# Altium footprint library micro_mousev1.0.PcbLib: 13 footprints
Each footprint in its own frame and in the unit in brackets; x right, y up, seen from the top. Pads: shape width x height; smd on the part's side, far side on the other; paste and mask are expansions set on the pad; w line width, h text height; cw(c..) or ccw(c..) is an arc to the next point about the centre after c.
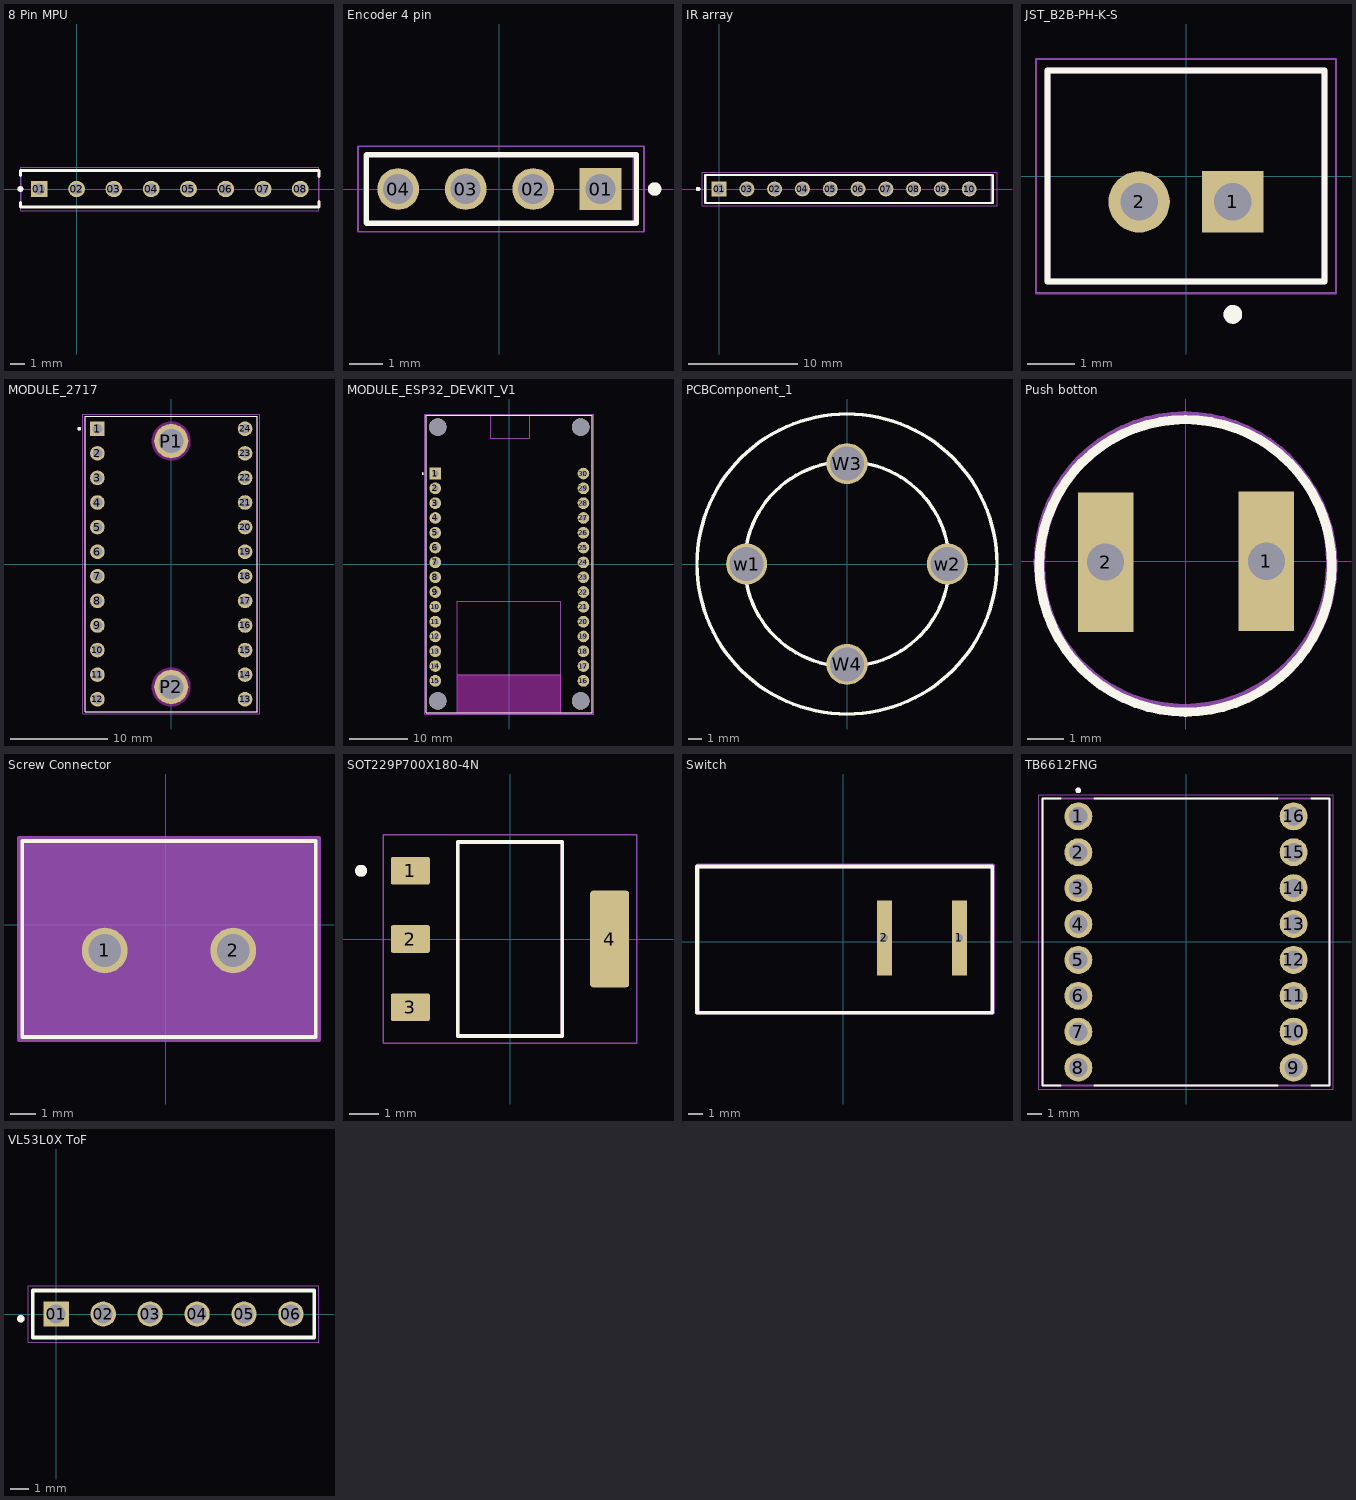
[diagram p0: the footprints below, top view; thin cyan lines are the x and y axes]

## 8 Pin MPU [mil]
pads (8):
  rect 43.7x43.7 / inner round 43.7 / far side rect 43.7x43.7 hole 29.92: 01(-100,0)
  oval 45x43.7 hole 30: 02(0,0) 03(100,0) 04(200,0) 05(300,0) 06(400,0) 07(500,0) 08(600,0)
Top Overlay:
  circle w7.87: c-150.47,0 r3.94
  lines w7.87: -150,-35.63 -150,-48 650,-48 650,-33.66 ; -150,35.63 -150,50 650,50 650,33.66
Mechanical 13:
  circle w7.87: c-150.47,0 r3.94
  lines w3.94: -150,-48 -150,48 650,48 650,-48 -150,-48
Mechanical 15:
  lines w1.97: -150,-57.84 650,-57.84 650,57.84 -150,57.84 -150,-57.84

## Encoder 4 pin [mm]
pads (4):
  rect 1.24x1.24 / inner round 1.24 / far side rect 1.24x1.24 hole 0.89: 01(3,0)
  round 1.24 hole 0.89: 02(1,0) 03(-1,0) 04(-3,0)
Top Overlay:
  circle w0.2: c4.599,0 r0.1
  lines w0.152: -3.937,-1.016 4.064,-1.016 4.064,1.016 -3.937,1.016 -3.937,-1.016
Mechanical 13:
  circle w0.2: c4.599,0 r0.1
  lines w0.1: -4,-1 -4,1.016 4,1.016 4,-1 -4,-1
Mechanical 15:
  lines w0.05: -4.191,-1.27 -4.191,1.27 4.284,1.27 4.284,-1.27 -4.191,-1.27

## IR array [mm]
pads (10):
  rect 1.37x1.37 hole 1.02: 01(0,0)
  round 1.37 hole 1.02: 02(5.08,0) 03(2.54,0) 04(7.62,0) 05(10.16,0) 06(12.7,0) 07(15.24,0) 08(17.78,0) 09(20.32,0) 10(22.86,0)
Top Overlay:
  circle w0.2: c-1.92,0 r0.1
  lines w0.2: -1.27,-1.27 25.019,-1.27 25.019,1.27 -1.27,1.27 -1.27,-1.27
Mechanical 13:
  circle w0.2: c-1.92,0 r0.1
  lines w0.1: -1.27,-1.27 -1.27,1.27 24.892,1.27 24.892,-1.27 -1.27,-1.27
Mechanical 15:
  lines w0.05: -1.52,-1.52 -1.52,1.52 25.4,1.52 25.4,0.76 25.4,-0.76 25.4,-1.52 -1.52,-1.52

## JST_B2B-PH-K-S [mm]
pads (2):
  rect 1.308x1.308 / inner round 1.308 / far side rect 1.308x1.308 hole 0.8: 1(1,-0.55)
  round 1.308 hole 0.8: 2(-1,-0.55)
Top Overlay:
  circle w0.2: c1,-2.95 r0.1
  lines w0.127: -2.95,-2.25 2.95,-2.25 2.95,2.25 -2.95,2.25 -2.95,-2.25
Mechanical 13:
  circle w0.2: c1,-2.95 r0.1
  lines w0.127: -2.95,-2.25 -2.95,2.25 2.95,2.25 2.95,-2.25 -2.95,-2.25
Mechanical 15:
  lines w0.05: -3.2,-2.5 -3.2,2.5 3.2,2.5 3.2,-2.5 -3.2,-2.5
3D body "step_temp.STEP": height 6, standoff -3.4, extent -2.95,-2.25 2.95,2.25

## MODULE_2717 [mm]
height 2.7
pads (26):
  rect 1.508x1.508 / inner round 1.508 / far side rect 1.508x1.508 hole 1: 1(-7.62,13.97)
  round 1.508 hole 1: 2(-7.62,11.43) 3(-7.62,8.89) 4(-7.62,6.35) 5(-7.62,3.81) 6(-7.62,1.27) 7(-7.62,-1.27) 8(-7.62,-3.81) 9(-7.62,-6.35) 10(-7.62,-8.89) 11(-7.62,-11.43) 12(-7.62,-13.97) 13(7.62,-13.97) 14(7.62,-11.43) 15(7.62,-8.89) 16(7.62,-6.35) 17(7.62,-3.81) 18(7.62,-1.27) 19(7.62,1.27) 20(7.62,3.81) 21(7.62,6.35) 22(7.62,8.89) 23(7.62,11.43) 24(7.62,13.97)
  round 3.516 hole 2.5: P1(0,12.7) P2(0,-12.7)
Top Overlay:
  circle w0.2: c-9.5,13.97 r0.1
  lines w0.127: -8.89,-15.24 8.89,-15.24 8.89,15.24 -8.89,15.24 -8.89,-15.24
Keep-Out Layer:
  circle w2.032: c0,-12.7 r1
  circle w2.032: c0,-12.7 r1
  circle w2.032: c0,12.7 r1
  circle w2.032: c0,12.7 r1
Mechanical 13:
  circle w0.2: c-9.5,13.97 r0.1
  lines w0.127: -8.89,-15.24 8.89,-15.24 8.89,15.24 -8.89,15.24 -8.89,-15.24
Mechanical 15:
  lines w0.05: -9.14,-15.49 9.14,-15.49 9.14,15.49 -9.14,15.49 -9.14,-15.49
3D body "step_temp.STEP": height 1.2, standoff -1.57, extent -8.89,-15.24 8.89,15.24

## MODULE_ESP32_DEVKIT_V1 [mm]
height 6.8
pads (34):
  rect 2x2 / inner round 2 / far side rect 2x2 hole 1.02: 1(-12.7,15.515)
  round 2 hole 1.02: 2(-12.7,12.975) 3(-12.7,10.435) 4(-12.7,7.895) 5(-12.7,5.355) 6(-12.7,2.815) 7(-12.7,0.275) 8(-12.7,-2.265) 9(-12.7,-4.805) 10(-12.7,-7.345) 11(-12.7,-9.885) 12(-12.7,-12.425) 13(-12.7,-14.965) 14(-12.7,-17.505) 15(-12.7,-20.045) 16(12.7,-20.045) 17(12.7,-17.505) 18(12.7,-14.965) 19(12.7,-12.425) 20(12.7,-9.885) 21(12.7,-7.345) 22(12.7,-4.805) 23(12.7,-2.265) 24(12.7,0.275) 25(12.7,2.815) 26(12.7,5.355) 27(12.7,7.895) 28(12.7,10.435) 29(12.7,12.975) 30(12.7,15.515)
  round 3 hole 3 unplated: ""(-12.28,-23.475) ""(-12.28,23.475) ""(12.23,-23.475) ""(12.23,23.475)
Top Overlay:
  circle w0.2: c-14.85,15.515 r0.1
  lines w0.127: -14.28,-25.475 -8.91,-25.475 8.78,-25.475 14.23,-25.475 ; -14.28,-25.475 -14.28,25.475 ; -14.28,-25.475 -14.28,25.475 ; -14.28,-25.475 14.23,-25.475 ; -14.28,25.475 -3.211,25.475 3.5,25.475 14.23,25.475 ; -14.28,25.475 14.23,25.475 ; 14.23,-25.475 14.23,25.475 ; 14.23,-25.475 14.23,25.475
Keep-Out Layer:
  region: 8.78,-25.475 -8.91,-25.475 -8.91,-18.985 8.78,-18.985
  region: 8.78,-25.475 -8.91,-25.475 -8.91,-18.985 8.78,-18.985
Mechanical 13:
  circle w0.2: c-14.85,15.515 r0.1
  lines w0.127: -8.91,-25.475 -8.91,-18.985 ; -8.91,-25.475 8.78,-25.475 ; -8.91,-25.475 -14.28,-25.475 -14.28,25.475 -3.211,25.475 ; -8.91,-18.985 8.78,-18.985 ; -8.91,-18.985 -8.91,-6.355 8.78,-6.355 8.78,-18.985 ; -3.211,25.475 -3.211,21.585 3.5,21.585 3.5,25.475 ; -3.211,25.475 3.5,25.475 ; 3.5,25.475 14.23,25.475 14.23,-25.475 8.78,-25.475 ; 8.78,-25.475 8.78,-18.985
Mechanical 15:
  lines w0.05: -14.53,-25.725 14.48,-25.725 14.48,25.725 -14.53,25.725 -14.53,-25.725
3D body "step_temp.STEP": height 7.05, standoff -6, extent -14.1,-25.9 14.1,26.55

## PCBComponent_1 [mm]
pads (4):
  round 3 hole 2.5: w1(-7.366,0) w2(7.366,0) W3(0,7.366) W4(0,-7.366)
Top Overlay:
  circle w0.254: c0,0 r11
  circle w0.254: c0,0 r7.5

## Push botton [mil]
pads (2):
  rect 60x150 / inner rect 40x200 / far side rect 60x150 hole 40 square: 1(87,0) 2(-86,-1)
Top Overlay:
  circle w10: c0,-5 r157.48
Mechanical 1:
  circle w10: c1,-4 r157.48
Mechanical 15:
  circle w10: c-1,-1 r157.48

## Screw Connector [mil]
pads (2):
  round 71 / inner round 60 / far side round 71 hole 51 paste-99999 mask+0: 1(-95,-40) 2(105,-40)
Top Overlay:
  lines w6: -223.5,-174.65 233.5,-174.65 233.5,130.35 -223.5,130.35 -223.5,-174.65
Mechanical 13:
  lines w1: -218.5,-169.65 228.5,-169.65 228.5,125.35 -218.5,125.35 -218.5,-169.65
Mechanical 15:
  region: 238.5,135.35 -228.5,135.35 -228.5,-179.65 238.5,-179.65
  lines w6: -228.5,-179.65 -228.5,135.35 238.5,135.35 238.5,-179.65 -228.5,-179.65

## SOT229P700X180-4N [mm]
height 1.8
pads (4):
  rrect15% 1.31x0.93 smd: 1(-3.345,2.29) 2(-3.345,0) 3(-3.345,-2.29)
  rrect15% 1.31x3.24 smd: 4(3.345,0)
Top Overlay:
  circle w0.2: c-5,2.29 r0.1
  lines w0.127: -1.753,-3.253 -1.753,3.253 1.753,3.253 1.753,-3.253 -1.753,-3.253
Mechanical 13:
  circle w0.2: c-5,2.29 r0.1
  lines w0.127: -1.753,-3.253 -1.753,3.253 1.753,3.253 1.753,-3.253 -1.753,-3.253
Mechanical 15:
  lines w0.05: -4.25,-3.502 4.25,-3.502 4.25,3.502 -4.25,3.502 -4.25,-3.502
3D body "step_temp.STEP": height 1.8, standoff 0, extent -3.251,-3.499 3.251,3.499

## Switch [mil]
pads (2):
  rect 40x200 hole 20 square: 1(310,10) 2(110,10)
Top Overlay:
  lines w10: -390,-190 397.4,-190 397.4,200 -390,200 -390,-190
Mechanical 13:
  lines w10: -387.4,-190 400,-190 400,203.7 -387.4,203.7 -387.4,-190
Mechanical 15:
  lines w10: -390,-190 400,-190 400,200 -390,200 -390,-190

## TB6612FNG [mm]
pads (16):
  round 1.98 hole 1.32: 1(-7.62,8.89) 2(-7.62,6.35) 3(-7.62,3.81) 4(-7.62,1.27) 5(-7.62,-1.27) 6(-7.62,-3.81) 7(-7.62,-6.35) 8(-7.62,-8.89) 9(7.62,-8.89) 10(7.62,-6.35) 11(7.62,-3.81) 12(7.62,-1.27) 13(7.62,1.27) 14(7.62,3.81) 15(7.62,6.35) 16(7.62,8.89)
Top Overlay:
  circle w0.2: c-7.62,10.728 r0.1
  lines w0.127: -8.89,-10.16 -10.16,-10.16 -10.16,10.16 -8.89,10.16 ; -6.5,-10.16 6.5,-10.16 ; -6.5,10.16 6.5,10.16 ; 8.89,-10.16 10.16,-10.16 10.16,10.16 8.89,10.16
Mechanical 13:
  circle w0.2: c-7.62,10.728 r0.1
  lines w0.127: -10.16,-10.16 -10.16,10.16 10.16,10.16 10.16,-10.16 -10.16,-10.16
Mechanical 15:
  lines w0.05: -10.41,-10.41 -10.41,10.41 10.41,10.41 10.41,-10.41 -10.41,-10.41
3D body "step_temp.STEP": height 5.5, standoff -6, extent -10.16,-10.16 10.16,10.16

## VL53L0X ToF [mm]
pads (6):
  rect 1.37x1.37 hole 1.02: 01(0,0)
  round 1.37 hole 1.02: 02(2.54,0) 03(5.08,0) 04(7.62,0) 05(10.16,0) 06(12.7,0)
Top Overlay:
  circle w0.2: c-1.92,-0.254 r0.1
  lines w0.2: -1.27,-1.27 13.97,-1.27 13.97,1.27 -1.27,1.27 -1.27,-1.27
Mechanical 13:
  circle w0.2: c-1.92,-0.254 r0.1
  lines w0.1: -1.27,-1.27 13.97,-1.27 ; -1.27,-1.27 13.97,-1.27 ; -1.27,-1.27 -1.27,1.27 13.97,1.27 13.97,-1.27
Mechanical 15:
  lines w0.05: -1.52,-1.52 14.22,-1.52 14.22,1.52 -1.52,1.52 -1.52,-1.52